# Altium schematic symbol library Switch,Tactile,SPST-NO,RA,Thru.Schlib: 1 symbol
Pins are listed as number, name and electrical type; pins without a type are passive.

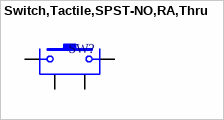
[diagram p0: symbol Switch,Tactile,SPST-NO,RA,Thru]

## Switch,Tactile,SPST-NO,RA,Thru
designator SW?
pins: 0, 0, 1, 2